# Altium schematic symbol library 39-30-0080_MOLEX.SCHLIB: 1 symbol
Pins are listed as number, name and electrical type; pins without a type are passive.

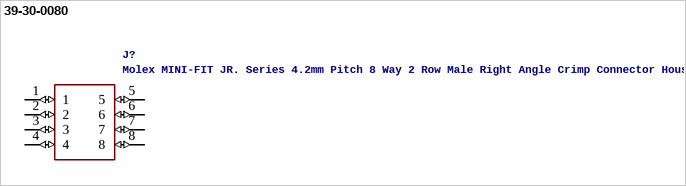
[diagram p0: symbol 39-30-0080]

## 39-30-0080
designator J?, comment Molex MINI-FIT JR. Series 4.2mm Pitch 8 Way 2 Row Male Right Angle Crimp Connector Housing 5569   Source:  Datasheet
GateName_1: G$1; Allied_Number: 70191047; SymbolName_1: 39-30-0080; LibraryName: 39-30-0080; DeviceSetName: 39-30-0080; Package: 39-30-0080_1; RS_Part_Number: 6795852P; RS_Price-Stock: http://uk.rs-online.com/web/p/products/6795852P; Manufacturer_Name: Molex; Manufacturer_Part_Number: 39-30-0080; Height: mm
pins: 1 (io), 2 (io), 3 (io), 4 (io), 5 (io), 6 (io), 7 (io), 8 (io)